# EAGLE library part KAYO_TVS_SRV05 (library kxnStandard_diod)
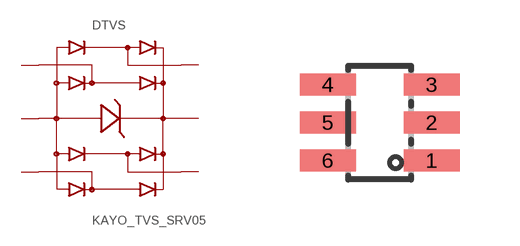
[diagram p1: symbol with the pads of KAYO_SSOT-6; footprint KAYO_SSOT-6]

Designator prefix DTVS

## KAYO_TVS_SRV05_SOT23_6  [KAYO_SSOT-6]
1  C1  pas
2  C2  pas
3  C3  pas
4  C4  pas
5  C5  pas
6  C6  pas

## Footprint KAYO_SSOT-6 (pad centres in mm)
https://www.waveshare.com/w/upload/f/f6/NDC7002N.pdf
smd 1.4 x 0.55: 1 1.3,-0.95; 2 1.3,0; 3 1.3,0.95; 4 -1.3,0.95; 5 -1.3,0; 6 -1.3,-0.95